# EAGLE library part 691411710024B (library WR-TBL Spring Clamp)
WR-TBL Serie 411B - 5.00 mm Screwless Horizontal Entry - 2.0 mm 2 Wires KIND PROPERTIES Pitch 5 mm MATERIAL PROPERTIES Insulator Material PA66 Insulator Flammability Rating UL94 V-0 Contact Material Brass Contact Plating Tin Wire Guard Material Stainless Steel GENERAL INFORMATION Operating Temperature -40 up to +105 °C Compliance RoHS ELECTRICAL PROPERTIES R cULus 10 A Working Voltage [cULus] 300 V (AC) Withstanding Voltage [cULus] 2000 V (AC) Contact Resistance [cULus] 20 mΩ Mechanical Properties Wire Strip Length 9 up to 10 (mm) Wire Properties Solid Wire Section (AWG) 14 to 20 (AWG) Solid Wire Section (Metric) 2.08 to 0.518 (mm²) Stranded Wire Section (AWG) 14 to 20 (AWG) Stranded Wire Section (Metric) 2.08 to 0.518 (mm²) CERTIFICATION cULus Approval E315414 Packaging Properties Packaging Box Details see: www.we-online.com/en/components/products/TBL_5_00_411B_SCREWLESS_HORIZONTAL_ENTRY_2_0MM2_WIRES_6914117100XXB/ Updated by Ella Wu 2019-12-31 2019(C) Würth Elektronik
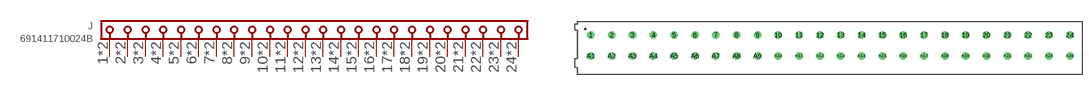
[diagram p86: symbol with the pads of 691411710024B; footprint 691411710024B]

Designator prefix J

## 691411710024B (DATASHEET-URL: https://www.we-online.com/redexpert/spec/691411710024B?ae; IR-UL: 10A; MOUNT: THT; PART-NUMBER: 691411710024B; PINS: 24; PITCH: 5mm; TYPE: Horizontal; VALUE: 691411710024B; WIRE: 14 to 20 (AWG) 2.08 to 0.518 (mm²); WORKING-VOLTAGE-UL: 300V (AC))  [691411710024B]
1  1  pas
2  2  pas
3  3  pas
4  4  pas
5  5  pas
6  6  pas
7  7  pas
8  8  pas
9  9  pas
10  10  pas
11  11  pas
12  12  pas
13  13  pas
14  14  pas
15  15  pas
16  16  pas
17  17  pas
18  18  pas
19  19  pas
20  20  pas
21  21  pas
22  22  pas
23  23  pas
24  24  pas
A1  1  pas
A2  2  pas
A3  3  pas
A4  4  pas
A5  5  pas
A6  6  pas
A7  7  pas
A8  8  pas
A9  9  pas
A10  10  pas
A11  11  pas
A12  12  pas
A13  13  pas
A14  14  pas
A15  15  pas
A16  16  pas
A17  17  pas
A18  18  pas
A19  19  pas
A20  20  pas
A21  21  pas
A22  22  pas
A23  23  pas
A24  24  pas

## Footprint 691411710024B (pad centres in mm)
WR-TBL Serie 411B - 5.00 mm Screwless Horizontal Entry - 2.0 mm 2 Wires Max Height = 15.25mm , Pitch 5mm , 24pins
drill 1.2: 1 -57.5,2.5; 2 -52.5,2.5; 3 -47.5,2.5; 4 -42.5,2.5; 5 -37.5,2.5; 6 -32.5,2.5; 7 -27.5,2.5; 8 -22.5,2.5; 9 -17.5,2.5; 10 -12.5,2.5; 11 -7.5,2.5; 12 -2.5,2.5; 13 2.5,2.5; 14 7.5,2.5; 15 12.5,2.5; 16 17.5,2.5; 17 22.5,2.5; 18 27.5,2.5; 19 32.5,2.5; 20 37.5,2.5; 21 42.5,2.5; 22 47.5,2.5; 23 52.5,2.5; 24 57.5,2.5; A1 -57.5,-2.5; A2 -52.5,-2.5; A3 -47.5,-2.5; A4 -42.5,-2.5; A5 -37.5,-2.5; A6 -32.5,-2.5; A7 -27.5,-2.5; A8 -22.5,-2.5; A9 -17.5,-2.5; A10 -12.5,-2.5; A11 -7.5,-2.5; A12 -2.5,-2.5; A13 2.5,-2.5; A14 7.5,-2.5; A15 12.5,-2.5; A16 17.5,-2.5; A17 22.5,-2.5; A18 27.5,-2.5; A19 32.5,-2.5; A20 37.5,-2.5; A21 42.5,-2.5; A22 47.5,-2.5; A23 52.5,-2.5; A24 57.5,-2.5